# Altium integrated library TI Power Management Battery Management.IntLib: 949 symbols (part 34 of 62)
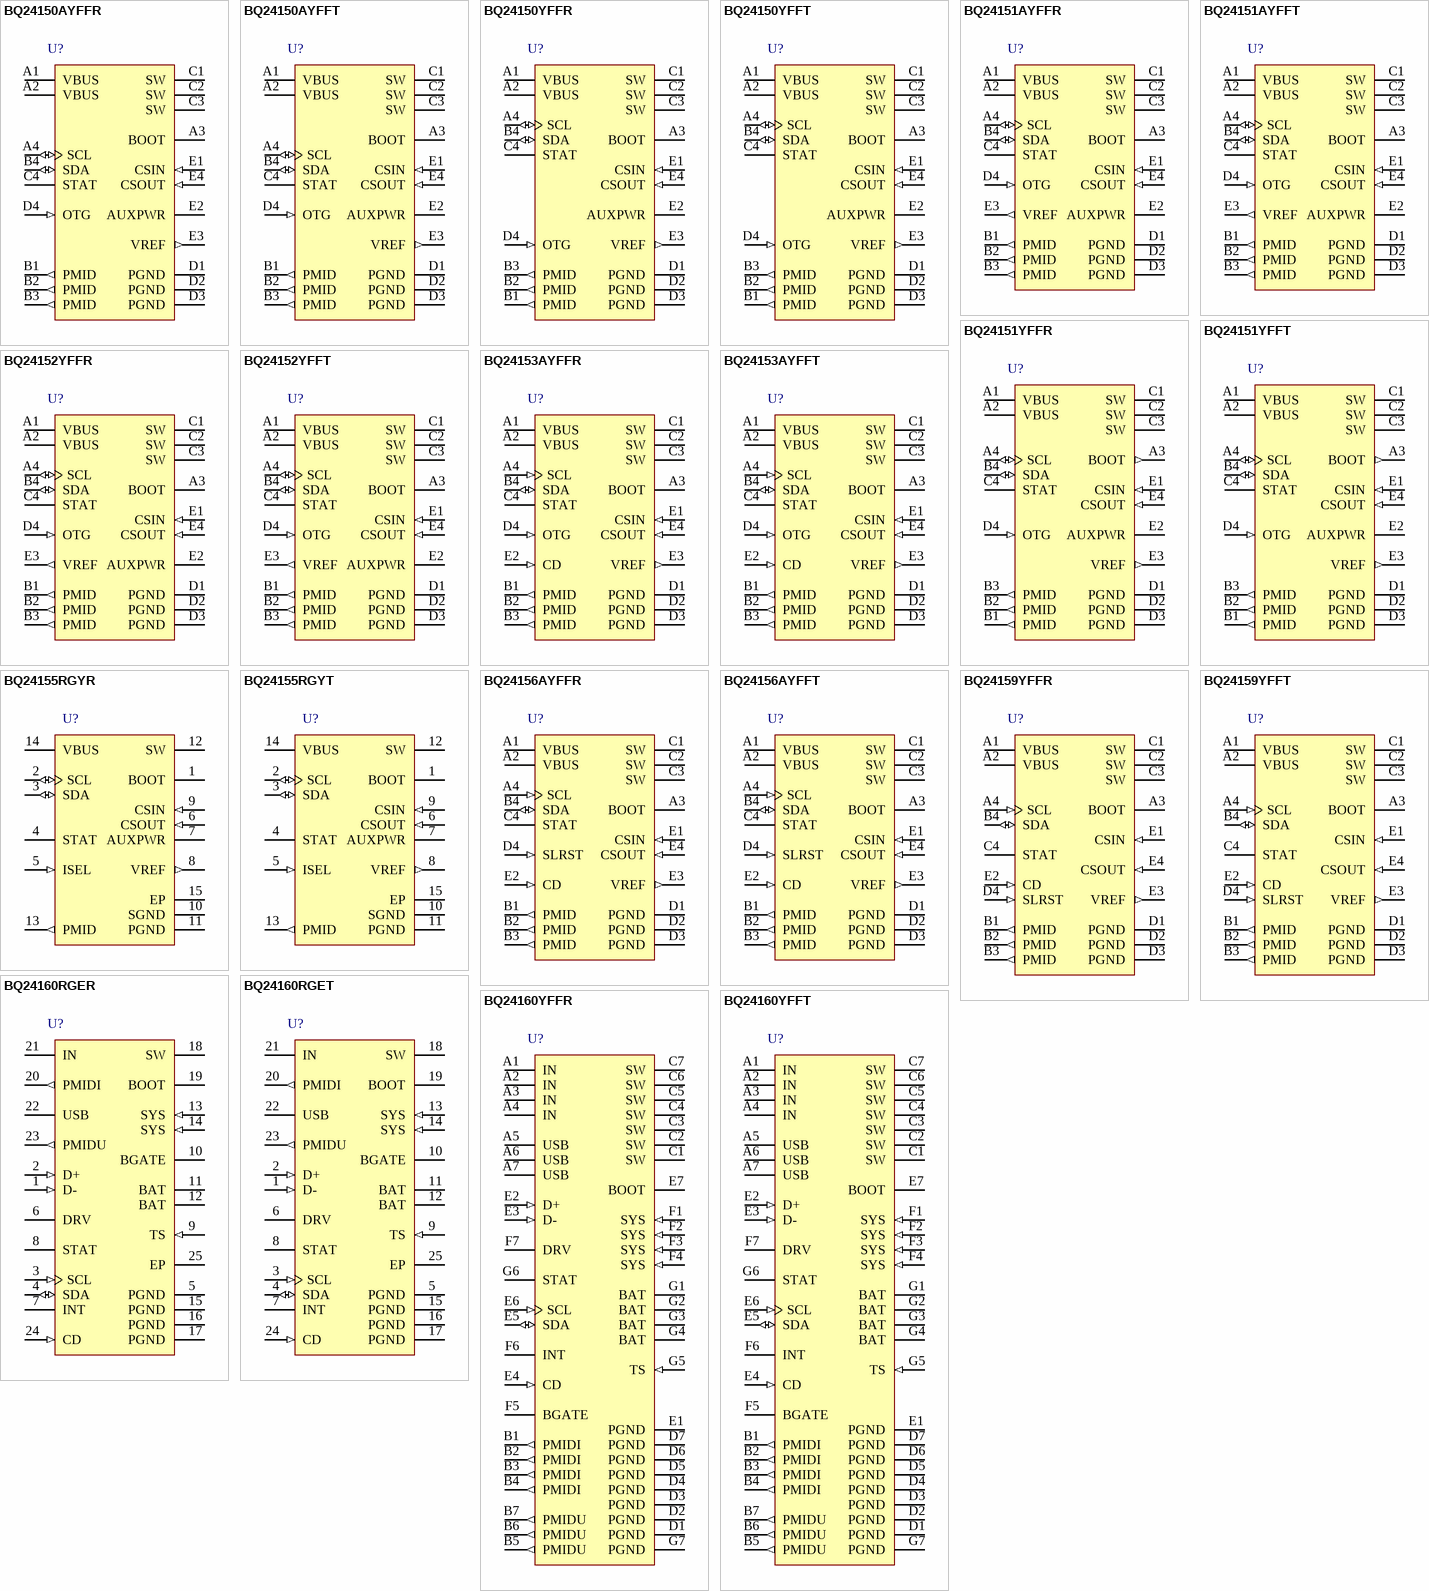
[diagram p67: symbols BQ24150AYFFR to BQ24160YFFT]

## BQ24150AYFFR
designator U?
Fully Integrated Switch-Mode One-Cell Li-Ion Charger with Full USB Compliance and USB-OTG Suppor, 4 V, -40 to 85 degC, 20-pin DSBGA (YFF), Green (RoHS & no Sb/Br); PartNumber: BQ24150AYFFR; Manufacturer: Texas Instruments; Lead Acid: N; Li-Ion: Y; SubFamily: Battery Charge Management; Vin(Min)(V): 4; DatasheetVersion: SLUS931A; PackageVersion: revAF, Mar-2012; PackageReference: YFF20-1976X1946DE; PackageDescription: 20-Ball Die-Size Ball Grid Array, 1.98 x 1.95 mm Body, 0.4 mm Pitch, Pb-Free; Supplier 1: Digi-Key; Supplier Part Number 1: 296-24527-2-ND; Supplier 2: Digi-Key; Supplier Part Number 2: 296-24527-1-ND; Supplier 3: Digi-Key; Supplier Part Number 3: 296-24527-6-ND; Supplier 4: Mouser; Supplier Part Number 4: 595-BQ24150AYFFR; Eco-Plan: Green (RoHS & no Sb/Br); Li-Polymer: Y; NiCd: N; NiMH: N; Over Voltage Protection: N; Mounting Technology: Surface Mount; ComponentLink1Description: Datasheet; ComponentLink1URL: http://www.ti.com/general/docs/lit/getliterature.tsp?genericPartNumber=BQ24150A&fileType=pdf
footprint YFF20-1976X1946DE (BGA, 20-Leads, Body 1.98x1.95mm, Pitch 0.4mm, Solder Mask Defined Pads)
pins: A1 VBUS (power) "Charger input voltage. Bypass it with a 1-uF ceramic capacitor from VBUS to PGND", A2 VBUS (power) "Charger input voltage. Bypass it with a 1-uF ceramic capacitor from VBUS to PGND", A3 BOOT (power) "Boot-strapped capacitor for the high-side MOSFET gate driver. Connect a 10-nF ceramic capacitor (voltage rating above 10 V) from BOOT pin to SW pin.", A4 SCL (io) "I2C interface clock. Open drain output, connect a 10-kohm pullup resistor to 1.8V rail", B1 PMID (out) "Connection point between reverse blocking MOSFET and high-side switching MOSFET. Bypass it with a minimum of 3.3-uF capacitor from PMID to PGND.", B2 PMID (out) "Connection point between reverse blocking MOSFET and high-side switching MOSFET. Bypass it with a minimum of 3.3-uF capacitor from PMID to PGND.", B3 PMID (out) "Connection point between reverse blocking MOSFET and high-side switching MOSFET. Bypass it with a minimum of 3.3-uF capacitor from PMID to PGND.", B4 SDA (io) "I2C interface data. Open drain output, connect a 10-kohm pullup resistor to 1.8V rail", C1 SW (power) "Internal switch to output inductor connection.", C2 SW (power) "Internal switch to output inductor connection.", C3 SW (power) "Internal switch to output inductor connection.", C4 STAT (hiz) "Charge status pin. Pull low when charge in progress. Open drain for other conditions. During faults, a 128-uS pulse is sent out. STAT pin can be disabled by the EN_STAT bit in control register. STAT can be used to drive a (See Datasheet)", D1 PGND (power) "Power ground", D2 PGND (power) "Power ground", D3 PGND (power) "Power ground", D4 OTG (in) "Boost mode enable control or input current limiting selection pin. When OTG is in active status, bq24150A/1A is forced to operate in boost mode. It has higher priority over I2C control and can be disabled through control (See Datasheet)", E1 CSIN (in) "Charge current-sense input. Battery current is sensed via the voltage drop across an external sense resistor. A 0.1-uF ceramic capacitor to PGND is required.", E2 AUXPWR (power) "Auxiliary power supply, connected to the battery pack to provide power in high-impedance mode. Bypass it with a 1-uF ceramic capacitor from this pin to PGND.", E3 VREF (out) "Internal bias regulator voltage. Connect a 1-uF ceramic capacitor from this output to PGND. External load on VREF is not allowed.", E4 CSOUT (in) "Battery voltage and current sense input. Bypass it with a ceramic capacitor (minimum 0.1 uF) to PGND if there are long inductive leads to battery."

## BQ24150AYFFT
designator U?
Fully Integrated Switch-Mode One-Cell Li-Ion Charger with Full USB Compliance and USB-OTG Suppor, 4 V, -40 to 85 degC, 20-pin DSBGA (YFF), Green (RoHS & no Sb/Br); PartNumber: BQ24150AYFFT; Manufacturer: Texas Instruments; Lead Acid: N; Li-Ion: Y; SubFamily: Battery Charge Management; Vin(Min)(V): 4; DatasheetVersion: SLUS931A; PackageVersion: revAF, Mar-2012; PackageReference: YFF20-1976X1946DE; PackageDescription: 20-Ball Die-Size Ball Grid Array, 1.98 x 1.95 mm Body, 0.4 mm Pitch, Pb-Free; Supplier 1: Digi-Key; Supplier Part Number 1: 296-24546-2-ND; Supplier 2: Digi-Key; Supplier Part Number 2: 296-24546-1-ND; Supplier 3: Digi-Key; Supplier Part Number 3: 296-24546-6-ND; Supplier 4: Newark; Supplier Part Number 4: 10R2207; Supplier 5: Mouser; Supplier Part Number 5: 595-BQ24150AYFFT; Eco-Plan: Green (RoHS & no Sb/Br); Li-Polymer: Y; NiCd: N; NiMH: N; Over Voltage Protection: N; Mounting Technology: Surface Mount; ComponentLink1Description: Datasheet; ComponentLink1URL: http://www.ti.com/general/docs/lit/getliterature.tsp?genericPartNumber=BQ24150A&fileType=pdf
footprint YFF20-1976X1946DE (BGA, 20-Leads, Body 1.98x1.95mm, Pitch 0.4mm, Solder Mask Defined Pads)
pins: A1 VBUS (power) "Charger input voltage. Bypass it with a 1-uF ceramic capacitor from VBUS to PGND", A2 VBUS (power) "Charger input voltage. Bypass it with a 1-uF ceramic capacitor from VBUS to PGND", A3 BOOT (power) "Boot-strapped capacitor for the high-side MOSFET gate driver. Connect a 10-nF ceramic capacitor (voltage rating above 10 V) from BOOT pin to SW pin.", A4 SCL (io) "I2C interface clock. Open drain output, connect a 10-kohm pullup resistor to 1.8V rail", B1 PMID (out) "Connection point between reverse blocking MOSFET and high-side switching MOSFET. Bypass it with a minimum of 3.3-uF capacitor from PMID to PGND.", B2 PMID (out) "Connection point between reverse blocking MOSFET and high-side switching MOSFET. Bypass it with a minimum of 3.3-uF capacitor from PMID to PGND.", B3 PMID (out) "Connection point between reverse blocking MOSFET and high-side switching MOSFET. Bypass it with a minimum of 3.3-uF capacitor from PMID to PGND.", B4 SDA (io) "I2C interface data. Open drain output, connect a 10-kohm pullup resistor to 1.8V rail", C1 SW (power) "Internal switch to output inductor connection.", C2 SW (power) "Internal switch to output inductor connection.", C3 SW (power) "Internal switch to output inductor connection.", C4 STAT (hiz) "Charge status pin. Pull low when charge in progress. Open drain for other conditions. During faults, a 128-uS pulse is sent out. STAT pin can be disabled by the EN_STAT bit in control register. STAT can be used to drive a (See Datasheet)", D1 PGND (power) "Power ground", D2 PGND (power) "Power ground", D3 PGND (power) "Power ground", D4 OTG (in) "Boost mode enable control or input current limiting selection pin. When OTG is in active status, bq24150A/1A is forced to operate in boost mode. It has higher priority over I2C control and can be disabled through control (See Datasheet)", E1 CSIN (in) "Charge current-sense input. Battery current is sensed via the voltage drop across an external sense resistor. A 0.1-uF ceramic capacitor to PGND is required.", E2 AUXPWR (power) "Auxiliary power supply, connected to the battery pack to provide power in high-impedance mode. Bypass it with a 1-uF ceramic capacitor from this pin to PGND.", E3 VREF (out) "Internal bias regulator voltage. Connect a 1-uF ceramic capacitor from this output to PGND. External load on VREF is not allowed.", E4 CSOUT (in) "Battery voltage and current sense input. Bypass it with a ceramic capacitor (minimum 0.1 uF) to PGND if there are long inductive leads to battery."

## BQ24150YFFR
designator U?
Fully Integrated Switch-Mode One-Cell Li-Ion Charger with Full USB Compliance and USB-OTG Suppor, 4 V, -40 to 85 degC, 20-pin DSBGA (YFF), Green (RoHS & no Sb/Br); PartNumber: BQ24150YFFR; Manufacturer: Texas Instruments; Lead Acid: N; Li-Ion: Y; SubFamily: Battery Charge Management; Vin(Min)(V): 4; DatasheetVersion: SLUS824A; PackageVersion: revAF, Mar-2012; PackageReference: YFF20-1976X1946DE; PackageDescription: 20-Ball Die-Size Ball Grid Array, 1.98 x 1.95 mm Body, 0.4 mm Pitch, Pb-Free; Supplier 1: Digi-Key; Supplier Part Number 1: 296-23460-2-ND; Supplier 2: Digi-Key; Supplier Part Number 2: 296-23460-1-ND; Supplier 3: Digi-Key; Supplier Part Number 3: 296-23460-6-ND; Supplier 4: Farnell; Supplier Part Number 4: 1625456; Supplier 5: Mouser; Supplier Part Number 5: 595-BQ24150YFFR; Eco-Plan: Green (RoHS & no Sb/Br); Li-Polymer: Y; NiCd: N; NiMH: N; Over Voltage Protection: N; Mounting Technology: Surface Mount; ComponentLink1Description: Datasheet; ComponentLink1URL: http://www.ti.com/general/docs/lit/getliterature.tsp?genericPartNumber=BQ24150&fileType=pdf
footprint YFF20-1976X1946DE (BGA, 20-Leads, Body 1.98x1.95mm, Pitch 0.4mm, Solder Mask Defined Pads)
pins: A1 VBUS (power) "Charger input voltage. Bypass it with a 1-uF ceramic capacitor from VBUS to PGND.", A2 VBUS (power) "Charger input voltage. Bypass it with a 1-uF ceramic capacitor from VBUS to PGND.", A3 BOOT "Boot-strapped capacitor for the high-side MOSFET gate driver.Connect a 10-nF ceramic capacitor (voltage rating above 10 V) from BOOT pin to SW pin", A4 SCL (io) "I2C interface clock. Open drain output, connect a 10-k ohm pullup resistor", B1 PMID (out) "Connection point between reverse blocking MOSFET gate driver.high-side switching MOSFET. Bypass it with a minimum of 3.3-uF capacitor from PMID to PGND", B2 PMID (out) "Connection point between reverse blocking MOSFET gate driver.high-side switching MOSFET. Bypass it with a minimum of 3.3-uF capacitor from PMID to PGND", B3 PMID (out) "Connection point between reverse blocking MOSFET gate driver.high-side switching MOSFET. Bypass it with a minimum of 3.3-uF capacitor from PMID to PGND", B4 SDA (io) "I2C interface data. Open drain output, connect a 10-k ohm  pullup resistor", C1 SW (power) "Internal switch to output inductor connection.", C2 SW (power) "Internal switch to output inductor connection.", C3 SW (power) "Internal switch to output inductor connection.", C4 STAT (hiz) "Charge status pin. Pull low when charge in progress. Open drain for other conditions. During faults, a 128-uS pulse is sent out. STAT pin can be disabled by the EN_STAT bit in control register. STAT can be used to drive a (See Datasheet)", D1 PGND (power) "Power ground", D2 PGND (power) "Power ground", D3 PGND (power) "Power ground", D4 OTG (in) "Boost mode enable control or input current limiting selection pin. When OTG is in active status,bq24150 is forced to operate in boost mode. It has higher priority over I2C control and can be disabled through control register.(See Datasheet)", E1 CSIN (in) "Charge current-sense input. Battery current is sensed via the voltage drop across an external sense resistor. A 0.1-uF ceramic capacitor to PGND is required", E2 AUXPWR (power) "Auxiliary power supply,connected to the battery pack to provide power in high-impedance mode.Bypass it with a 1-uF ceramic capacitor from this pin to PGND", E3 VREF (out) "Internal bias regulator voltage.Connect a 1-uF ceramic capacitor from this output to PGND. External load on VREF is not allowed.", E4 CSOUT (in) "Battery voltage and current sense input. Bypass it with a ceramic capacitor (minimum 0.1 uF) to PGND if there are long inductive leads to battery"

## BQ24150YFFT
designator U?
Fully Integrated Switch-Mode One-Cell Li-Ion Charger with Full USB Compliance and USB-OTG Suppor, 4 V, -40 to 85 degC, 20-pin DSBGA (YFF), Green (RoHS & no Sb/Br); PartNumber: BQ24150YFFT; Manufacturer: Texas Instruments; Lead Acid: N; Li-Ion: Y; SubFamily: Battery Charge Management; Vin(Min)(V): 4; DatasheetVersion: SLUS824A; PackageVersion: revAF, Mar-2012; PackageReference: YFF20-1976X1946DE; PackageDescription: 20-Ball Die-Size Ball Grid Array, 1.98 x 1.95 mm Body, 0.4 mm Pitch, Pb-Free; Supplier 1: Digi-Key; Supplier Part Number 1: 296-23601-2-ND; Supplier 2: Digi-Key; Supplier Part Number 2: 296-23601-1-ND; Supplier 3: Digi-Key; Supplier Part Number 3: 296-23601-6-ND; Supplier 4: Farnell; Supplier Part Number 4: 1647896; Supplier 5: Mouser; Supplier Part Number 5: 595-BQ24150YFFT; Eco-Plan: Green (RoHS & no Sb/Br); Li-Polymer: Y; NiCd: N; NiMH: N; Over Voltage Protection: N; Mounting Technology: Surface Mount; ComponentLink1Description: Datasheet; ComponentLink1URL: http://www.ti.com/general/docs/lit/getliterature.tsp?genericPartNumber=BQ24150&fileType=pdf
footprint YFF20-1976X1946DE (BGA, 20-Leads, Body 1.98x1.95mm, Pitch 0.4mm, Solder Mask Defined Pads)
pins: A1 VBUS (power) "Charger input voltage. Bypass it with a 1-uF ceramic capacitor from VBUS to PGND.", A2 VBUS (power) "Charger input voltage. Bypass it with a 1-uF ceramic capacitor from VBUS to PGND.", A3 BOOT "Boot-strapped capacitor for the high-side MOSFET gate driver.Connect a 10-nF ceramic capacitor (voltage rating above 10 V) from BOOT pin to SW pin", A4 SCL (io) "I2C interface clock. Open drain output, connect a 10-k ohm pullup resistor", B1 PMID (out) "Connection point between reverse blocking MOSFET gate driver.high-side switching MOSFET. Bypass it with a minimum of 3.3-uF capacitor from PMID to PGND", B2 PMID (out) "Connection point between reverse blocking MOSFET gate driver.high-side switching MOSFET. Bypass it with a minimum of 3.3-uF capacitor from PMID to PGND", B3 PMID (out) "Connection point between reverse blocking MOSFET gate driver.high-side switching MOSFET. Bypass it with a minimum of 3.3-uF capacitor from PMID to PGND", B4 SDA (io) "I2C interface data. Open drain output, connect a 10-k ohm  pullup resistor", C1 SW (power) "Internal switch to output inductor connection.", C2 SW (power) "Internal switch to output inductor connection.", C3 SW (power) "Internal switch to output inductor connection.", C4 STAT (hiz) "Charge status pin. Pull low when charge in progress. Open drain for other conditions. During faults, a 128-uS pulse is sent out. STAT pin can be disabled by the EN_STAT bit in control register. STAT can be used to drive a (See Datasheet)", D1 PGND (power) "Power ground", D2 PGND (power) "Power ground", D3 PGND (power) "Power ground", D4 OTG (in) "Boost mode enable control or input current limiting selection pin. When OTG is in active status,bq24150 is forced to operate in boost mode. It has higher priority over I2C control and can be disabled through control register.(See Datasheet)", E1 CSIN (in) "Charge current-sense input. Battery current is sensed via the voltage drop across an external sense resistor. A 0.1-uF ceramic capacitor to PGND is required", E2 AUXPWR (power) "Auxiliary power supply,connected to the battery pack to provide power in high-impedance mode.Bypass it with a 1-uF ceramic capacitor from this pin to PGND", E3 VREF (out) "Internal bias regulator voltage.Connect a 1-uF ceramic capacitor from this output to PGND. External load on VREF is not allowed.", E4 CSOUT (in) "Battery voltage and current sense input. Bypass it with a ceramic capacitor (minimum 0.1 uF) to PGND if there are long inductive leads to battery"

## BQ24151AYFFR
designator U?
Fully Integrated Switch-Mode One-Cell Li-Ion Charger with Full USB Compliance and USB-OTG Suppor, 4 V, -40 to 85 degC, 20-pin DSBGA (YFF), Green (RoHS & no Sb/Br); PartNumber: BQ24151AYFFR; Manufacturer: Texas Instruments; Lead Acid: N; Li-Ion: Y; SubFamily: Battery Charge Management; Vin(Min)(V): 4; DatasheetVersion: SLUS931A; PackageVersion: revAF, Mar-2012; PackageReference: YFF20-1976X1946DE; PackageDescription: 20-Ball Die-Size Ball Grid Array, 1.98 x 1.95 mm Body, 0.4 mm Pitch, Pb-Free; Supplier 1: Digi-Key; Supplier Part Number 1: 296-24521-2-ND; Supplier 2: Digi-Key; Supplier Part Number 2: 296-24521-1-ND; Supplier 3: Digi-Key; Supplier Part Number 3: 296-24521-6-ND; Supplier 4: Newark; Supplier Part Number 4: 10R1438; Supplier 5: Mouser; Supplier Part Number 5: 595-BQ24151AYFFR; Eco-Plan: Green (RoHS & no Sb/Br); Li-Polymer: Y; NiCd: N; NiMH: N; Over Voltage Protection: N; Mounting Technology: Surface Mount; ComponentLink1Description: Datasheet; ComponentLink1URL: http://www.ti.com/general/docs/lit/getliterature.tsp?genericPartNumber=BQ24151A&fileType=pdf
footprint YFF20-1976X1946DE (BGA, 20-Leads, Body 1.98x1.95mm, Pitch 0.4mm, Solder Mask Defined Pads)
pins: A1 VBUS (power) "Charger input voltage. Bypass it with a 1-uF ceramic capacitor from VBUS to PGND", A2 VBUS (power) "Charger input voltage. Bypass it with a 1-uF ceramic capacitor from VBUS to PGND", A3 BOOT (power) "Boot-strapped capacitor for the high-side MOSFET gate driver. Connect a 10-nF ceramic capacitor (voltage rating above 10 V) from BOOT pin to SW pin.", A4 SCL (io) "I2C interface clock. Open drain output, connect a 10-k ohm pullup resistor to 1.8V rail", B1 PMID (out) "Connection point between reverse blocking MOSFET and high-side switching MOSFET. Bypass it with a minimum of 3.3-uF capacitor from PMID to PGND", B2 PMID (out) "Connection point between reverse blocking MOSFET and high-side switching MOSFET. Bypass it with a minimum of 3.3-uF capacitor from PMID to PGND", B3 PMID (out) "Connection point between reverse blocking MOSFET and high-side switching MOSFET. Bypass it with a minimum of 3.3-uF capacitor from PMID to PGND", B4 SDA (io) "I2C interface data. Open drain output, connect a 10-k ohm pullup resistor to 1.8V rail", C1 SW (power) "Internal switch to output inductor connection.", C2 SW (power) "Internal switch to output inductor connection.", C3 SW (power) "Internal switch to output inductor connection.", C4 STAT (hiz) "Charge status pin. Pull low when charge in progress. Open drain for other conditions. During faults, a 128-uS pulse is sent out. STAT pin can be disabled by the EN_STAT bit in control register. STAT can be used to drive a (See Datasheet)", D1 PGND (power) "Power ground", D2 PGND (power) "Power ground", D3 PGND (power) "Power ground", D4 OTG (in) "Boost mode enable control or input current limiting selection pin. When OTG is in active status, bq24150A/1A is forced to operate in boost mode. It has higher priority over I2C control and can be disabled through control (See Datasheet)", E1 CSIN (in) "Charge current-sense input. Battery current is sensed via the voltage drop across an external sense resistor. A 0.1-uF ceramic capacitor to PGND is required", E2 AUXPWR (power) "Auxiliary power supply, connected to the battery pack to provide power in high-impedance mode.Bypass it with a 1-uF ceramic capacitor from this pin to PGND", E3 VREF (out) "Internal bias regulator voltage. Connect a 1-uF ceramic capacitor from this output to PGND. External load on VREF is not allowed", E4 CSOUT (in) "Battery voltage and current sense input. Bypass it with a ceramic capacitor (minimum 0.1 uF) to PGND if there are long inductive leads to battery"

## BQ24151AYFFT
designator U?
Fully Integrated Switch-Mode One-Cell Li-Ion Charger with Full USB Compliance and USB-OTG Suppor, 4 V, -40 to 85 degC, 20-pin DSBGA (YFF), Green (RoHS & no Sb/Br); PartNumber: BQ24151AYFFT; Manufacturer: Texas Instruments; Lead Acid: N; Li-Ion: Y; SubFamily: Battery Charge Management; Vin(Min)(V): 4; DatasheetVersion: SLUS931A; PackageVersion: revAF, Mar-2012; PackageReference: YFF20-1976X1946DE; PackageDescription: 20-Ball Die-Size Ball Grid Array, 1.98 x 1.95 mm Body, 0.4 mm Pitch, Pb-Free; Supplier 1: Digi-Key; Supplier Part Number 1: 296-24541-2-ND; Supplier 2: Digi-Key; Supplier Part Number 2: 296-24541-1-ND; Supplier 3: Digi-Key; Supplier Part Number 3: 296-24541-6-ND; Supplier 4: Newark; Supplier Part Number 4: 10R6870; Supplier 5: Mouser; Supplier Part Number 5: 595-BQ24151AYFFT; Eco-Plan: Green (RoHS & no Sb/Br); Li-Polymer: Y; NiCd: N; NiMH: N; Over Voltage Protection: N; Mounting Technology: Surface Mount; ComponentLink1Description: Datasheet; ComponentLink1URL: http://www.ti.com/general/docs/lit/getliterature.tsp?genericPartNumber=BQ24151A&fileType=pdf
footprint YFF20-1976X1946DE (BGA, 20-Leads, Body 1.98x1.95mm, Pitch 0.4mm, Solder Mask Defined Pads)
pins: A1 VBUS (power) "Charger input voltage. Bypass it with a 1-uF ceramic capacitor from VBUS to PGND", A2 VBUS (power) "Charger input voltage. Bypass it with a 1-uF ceramic capacitor from VBUS to PGND", A3 BOOT (power) "Boot-strapped capacitor for the high-side MOSFET gate driver. Connect a 10-nF ceramic capacitor (voltage rating above 10 V) from BOOT pin to SW pin.", A4 SCL (io) "I2C interface clock. Open drain output, connect a 10-k ohm pullup resistor to 1.8V rail", B1 PMID (out) "Connection point between reverse blocking MOSFET and high-side switching MOSFET. Bypass it with a minimum of 3.3-uF capacitor from PMID to PGND", B2 PMID (out) "Connection point between reverse blocking MOSFET and high-side switching MOSFET. Bypass it with a minimum of 3.3-uF capacitor from PMID to PGND", B3 PMID (out) "Connection point between reverse blocking MOSFET and high-side switching MOSFET. Bypass it with a minimum of 3.3-uF capacitor from PMID to PGND", B4 SDA (io) "I2C interface data. Open drain output, connect a 10-k ohm pullup resistor to 1.8V rail", C1 SW (power) "Internal switch to output inductor connection.", C2 SW (power) "Internal switch to output inductor connection.", C3 SW (power) "Internal switch to output inductor connection.", C4 STAT (hiz) "Charge status pin. Pull low when charge in progress. Open drain for other conditions. During faults, a 128-uS pulse is sent out. STAT pin can be disabled by the EN_STAT bit in control register. STAT can be used to drive a (See Datasheet)", D1 PGND (power) "Power ground", D2 PGND (power) "Power ground", D3 PGND (power) "Power ground", D4 OTG (in) "Boost mode enable control or input current limiting selection pin. When OTG is in active status, bq24150A/1A is forced to operate in boost mode. It has higher priority over I2C control and can be disabled through control (See Datasheet)", E1 CSIN (in) "Charge current-sense input. Battery current is sensed via the voltage drop across an external sense resistor. A 0.1-uF ceramic capacitor to PGND is required", E2 AUXPWR (power) "Auxiliary power supply, connected to the battery pack to provide power in high-impedance mode.Bypass it with a 1-uF ceramic capacitor from this pin to PGND", E3 VREF (out) "Internal bias regulator voltage. Connect a 1-uF ceramic capacitor from this output to PGND. External load on VREF is not allowed", E4 CSOUT (in) "Battery voltage and current sense input. Bypass it with a ceramic capacitor (minimum 0.1 uF) to PGND if there are long inductive leads to battery"

## BQ24151YFFR
designator U?
Fully Integrated Switch-Mode One-Cell Li-Ion Charger with Full USB Compliance and USB-OTG Suppor, 4 V, -40 to 85 degC, 20-pin DSBGA (YFF), Green (RoHS & no Sb/Br); PartNumber: BQ24151YFFR; Manufacturer: Texas Instruments; Lead Acid: N; Li-Ion: Y; SubFamily: Battery Charge Management; Vin(Min)(V): 4; DatasheetVersion: SLUS824A; PackageVersion: revAF, Mar-2012; PackageReference: YFF20-1976X1946DE; PackageDescription: 20-Ball Die-Size Ball Grid Array, 1.98 x 1.95 mm Body, 0.4 mm Pitch, Pb-Free; Supplier 1: Digi-Key; Supplier Part Number 1: 296-23461-2-ND; Supplier 2: Digi-Key; Supplier Part Number 2: 296-23461-1-ND; Supplier 3: Digi-Key; Supplier Part Number 3: 296-23461-6-ND; Supplier 4: Mouser; Supplier Part Number 4: 595-BQ24151YFFR; Eco-Plan: Green (RoHS & no Sb/Br); Li-Polymer: Y; NiCd: N; NiMH: N; Over Voltage Protection: N; Mounting Technology: Surface Mount; ComponentLink1Description: Datasheet; ComponentLink1URL: http://www.ti.com/general/docs/lit/getliterature.tsp?genericPartNumber=BQ24151&fileType=pdf
footprint YFF20-1976X1946DE (BGA, 20-Leads, Body 1.98x1.95mm, Pitch 0.4mm, Solder Mask Defined Pads)
pins: A1 VBUS (power) "Charger input voltage. Bypass it with a 1-uF ceramic capacitor from VBUS to PGND", A2 VBUS (power) "Charger input voltage. Bypass it with a 1-uF ceramic capacitor from VBUS to PGND", A3 BOOT (out) "Boot-strapped capacitor for the high-side MOSFET gate driver. Connect a 10-nF ceramic capacitor (voltage rating above 10 V) from BOOT pin to SW pin", A4 SCL (io) "I2C interface clock. Open drain output, connect a 10-kohm pullup resistor", B1 PMID (out) "Connection point between reverse blocking MOSFET and high-side switching MOSFET. Bypass it with a minimum of 3.3-uF capacitor from PMID to PGND.", B2 PMID (out) "Connection point between reverse blocking MOSFET and high-side switching MOSFET. Bypass it with a minimum of 3.3-uF capacitor from PMID to PGND.", B3 PMID (out) "Connection point between reverse blocking MOSFET and high-side switching MOSFET. Bypass it with a minimum of 3.3-uF capacitor from PMID to PGND.", B4 SDA (io) "I2C interface data. Open drain output, connect a 10-kohm pullup resistor", C1 SW (power) "Internal switch to output inductor connection.", C2 SW (power) "Internal switch to output inductor connection.", C3 SW (power) "Internal switch to output inductor connection.", C4 STAT (hiz) "Charge status pin. Pull low when charge in progress. Open drain for other conditions. During faults, a 128-uS pulse is sent out. STAT pin can be disabled by the EN_STAT bit in control register. STAT can be used to drive a (See Datasheet)", D1 PGND (power) "Power ground", D2 PGND (power) "Power ground", D3 PGND (power) "Power ground", D4 OTG (in) "Boost mode enable control or input current limiting selection pin. When OTG is in active status, bq24150/1 is forced to operate in boost mode. It has higher priority over I2C control and can be disabled through control (See Datasheet)", E1 CSIN (in) "Charge current-sense input. Battery current is sensed via the voltage drop across an external sense resistor. A 0.1-uF ceramic capacitor to PGND is required.", E2 AUXPWR (power) "Auxiliary power supply, connected to the battery pack to provide power in high-impedance mode. Bypass it with a 1-uF ceramic capacitor from this pin to PGND.", E3 VREF (out) "Internal bias regulator voltage. Connect a 1-mF ceramic capacitor from this output to PGND. External load on VREF is not allowed.", E4 CSOUT (in) "Battery voltage and current sense input. Bypass it with a ceramic capacitor (minimum 0.1 uF) to PGND if there are long inductive leads to battery."

## BQ24151YFFT
designator U?
Fully Integrated Switch-Mode One-Cell Li-Ion Charger with Full USB Compliance and USB-OTG Suppor, 4 V, -40 to 85 degC, 20-pin DSBGA (YFF), Green (RoHS & no Sb/Br); PartNumber: BQ24151YFFT; Manufacturer: Texas Instruments; Lead Acid: N; Li-Ion: Y; SubFamily: Battery Charge Management; Vin(Min)(V): 4; DatasheetVersion: SLUS824A; PackageVersion: revAF, Mar-2012; PackageReference: YFF20-1976X1946DE; PackageDescription: 20-Ball Die-Size Ball Grid Array, 1.98 x 1.95 mm Body, 0.4 mm Pitch, Pb-Free; Supplier 1: Digi-Key; Supplier Part Number 1: 296-23602-2-ND; Supplier 2: Digi-Key; Supplier Part Number 2: 296-23602-1-ND; Supplier 3: Digi-Key; Supplier Part Number 3: 296-23602-6-ND; Supplier 4: Farnell; Supplier Part Number 4: 1647897; Supplier 5: Farnell; Supplier Part Number 5: 1647897RL; Supplier 6: Mouser; Supplier Part Number 6: 595-BQ24151YFFT; Eco-Plan: Green (RoHS & no Sb/Br); Li-Polymer: Y; NiCd: N; NiMH: N; Over Voltage Protection: N; Mounting Technology: Surface Mount; ComponentLink1Description: Datasheet; ComponentLink1URL: http://www.ti.com/general/docs/lit/getliterature.tsp?genericPartNumber=BQ24151&fileType=pdf
footprint YFF20-1976X1946DE (BGA, 20-Leads, Body 1.98x1.95mm, Pitch 0.4mm, Solder Mask Defined Pads)
pins: A1 VBUS (power) "Charger input voltage. Bypass it with a 1-uF ceramic capacitor from VBUS to PGND", A2 VBUS (power) "Charger input voltage. Bypass it with a 1-uF ceramic capacitor from VBUS to PGND", A3 BOOT (out) "Boot-strapped capacitor for the high-side MOSFET gate driver. Connect a 10-nF ceramic capacitor (voltage rating above 10 V) from BOOT pin to SW pin", A4 SCL (io) "I2C interface clock. Open drain output, connect a 10-kohm pullup resistor", B1 PMID (out) "Connection point between reverse blocking MOSFET and high-side switching MOSFET. Bypass it with a minimum of 3.3-uF capacitor from PMID to PGND.", B2 PMID (out) "Connection point between reverse blocking MOSFET and high-side switching MOSFET. Bypass it with a minimum of 3.3-uF capacitor from PMID to PGND.", B3 PMID (out) "Connection point between reverse blocking MOSFET and high-side switching MOSFET. Bypass it with a minimum of 3.3-uF capacitor from PMID to PGND.", B4 SDA (io) "I2C interface data. Open drain output, connect a 10-kohm pullup resistor", C1 SW (power) "Internal switch to output inductor connection.", C2 SW (power) "Internal switch to output inductor connection.", C3 SW (power) "Internal switch to output inductor connection.", C4 STAT (hiz) "Charge status pin. Pull low when charge in progress. Open drain for other conditions. During faults, a 128-uS pulse is sent out. STAT pin can be disabled by the EN_STAT bit in control register. STAT can be used to drive a (See Datasheet)", D1 PGND (power) "Power ground", D2 PGND (power) "Power ground", D3 PGND (power) "Power ground", D4 OTG (in) "Boost mode enable control or input current limiting selection pin. When OTG is in active status, bq24150/1 is forced to operate in boost mode. It has higher priority over I2C control and can be disabled through control (See Datasheet)", E1 CSIN (in) "Charge current-sense input. Battery current is sensed via the voltage drop across an external sense resistor. A 0.1-uF ceramic capacitor to PGND is required.", E2 AUXPWR (power) "Auxiliary power supply, connected to the battery pack to provide power in high-impedance mode. Bypass it with a 1-uF ceramic capacitor from this pin to PGND.", E3 VREF (out) "Internal bias regulator voltage. Connect a 1-mF ceramic capacitor from this output to PGND. External load on VREF is not allowed.", E4 CSOUT (in) "Battery voltage and current sense input. Bypass it with a ceramic capacitor (minimum 0.1 uF) to PGND if there are long inductive leads to battery."

## BQ24152YFFR
designator U?
Fully Integrated Switch-Mode One-Cell Li-Ion Charger with Full USB Compliance and USB-OTG Suppor, 4 V, -40 to 85 degC, 20-pin DSBGA (YFF), Green (RoHS & no Sb/Br); PartNumber: BQ24152YFFR; Manufacturer: Texas Instruments; Lead Acid: N; Li-Ion: Y; SubFamily: Battery Charge Management; Vin(Min)(V): 4; DatasheetVersion: SLUS847A; PackageVersion: revAF, Mar-2012; PackageReference: YFF20-1976X1946DE; PackageDescription: 20-Ball Die-Size Ball Grid Array, 1.98 x 1.95 mm Body, 0.4 mm Pitch, Pb-Free; Supplier 1: Digi-Key; Supplier Part Number 1: 296-23517-2-ND; Supplier 2: Digi-Key; Supplier Part Number 2: 296-23517-1-ND; Supplier 3: Digi-Key; Supplier Part Number 3: 296-23517-6-ND; Supplier 4: Newark; Supplier Part Number 4: 14N4059; Supplier 5: Mouser; Supplier Part Number 5: 595-BQ24152YFFR; Eco-Plan: Green (RoHS & no Sb/Br); Li-Polymer: Y; NiCd: N; NiMH: N; Over Voltage Protection: N; Mounting Technology: Surface Mount; ComponentLink1Description: Datasheet; ComponentLink1URL: http://www.ti.com/general/docs/lit/getliterature.tsp?genericPartNumber=BQ24152&fileType=pdf
footprint YFF20-1976X1946DE (BGA, 20-Leads, Body 1.98x1.95mm, Pitch 0.4mm, Solder Mask Defined Pads)
pins: A1 VBUS (power) "Charger input voltage. Bypass it with a 1-uF ceramic capacitor from VBUS to PGND", A2 VBUS (power) "Charger input voltage. Bypass it with a 1-uF ceramic capacitor from VBUS to PGND", A3 BOOT (power) "Boot-strapped capacitor for the high-side MOSFET gate driver. Connect a 10-nF ceramic capacitor (voltage rating above 10 V) from BOOT pin to SW pin.", A4 SCL (io) "I2C interface clock. Open drain output, connect a 10-kohm pullup resistor to 1.8V rail", B1 PMID (out) "Connection point between reverse blocking MOSFET and high-side switching MOSFET. Bypass it with a minimum of 3.3-uF capacitor from PMID to PGND.", B2 PMID (out) "Connection point between reverse blocking MOSFET and high-side switching MOSFET. Bypass it with a minimum of 3.3-uF capacitor from PMID to PGND.", B3 PMID (out) "Connection point between reverse blocking MOSFET and high-side switching MOSFET. Bypass it with a minimum of 3.3-uF capacitor from PMID to PGND.", B4 SDA (io) "I2C interface data. Open drain output, connect a 10-kohm pullup resistor to 1.8V rail", C1 SW (power) "Internal switch to output inductor connection.", C2 SW (power) "Internal switch to output inductor connection.", C3 SW (power) "Internal switch to output inductor connection.", C4 STAT (hiz) "Charge status pin. Pull low when charge in progress. Open drain for other conditions. During faults, a 128uS pulse is sent out. STAT pin can be disabled by the EN_STAT bit in control register. STAT can  be used to drive a (See Datasheet)", D1 PGND (power) "Power ground", D2 PGND (power) "Power ground", D3 PGND (power) "Power ground", D4 OTG (in) "Boost mode enable control or input current limiting selection pin. When OTG is in active status, bq24152 is forced to operate in boost mode. It has higher priority over I2C control and can be disabled through control (See Datasheet)", E1 CSIN (in) "Charge current-sense input. Battery current is sensed via the voltage drop across an external sense resistor. A 0.1-uF ceramic capacitor to PGND is required.", E2 AUXPWR (power) "Auxiliary power supply, connected to the battery pack to provide power in high-impedance mode. Bypass it with a 1-uF ceramic capacitor from this pin to PGND.", E3 VREF (out) "Internal bias regulator voltage. Connect a 1-uF ceramic capacitor from this output to PGND. External load on VREF is not allowed.", E4 CSOUT (in) "Battery voltage and current sense input. Bypass it with a ceramic capacitor (minimum 0.1 uF) to PGND if there are long inductive leads to battery."

## BQ24152YFFT
designator U?
Fully Integrated Switch-Mode One-Cell Li-Ion Charger with Full USB Compliance and USB-OTG Suppor, 4 V, -40 to 85 degC, 20-pin DSBGA (YFF), Green (RoHS & no Sb/Br); PartNumber: BQ24152YFFT; Manufacturer: Texas Instruments; Lead Acid: N; Li-Ion: Y; SubFamily: Battery Charge Management; Vin(Min)(V): 4; DatasheetVersion: SLUS847A; PackageVersion: revAF, Mar-2012; PackageReference: YFF20-1976X1946DE; PackageDescription: 20-Ball Die-Size Ball Grid Array, 1.98 x 1.95 mm Body, 0.4 mm Pitch, Pb-Free; Supplier 1: Digi-Key; Supplier Part Number 1: BQ24152YFFT-ND; Supplier 2: Newark; Supplier Part Number 2: 02P9900; Supplier 3: Mouser; Supplier Part Number 3: 595-BQ24152YFFT; Eco-Plan: Green (RoHS & no Sb/Br); Li-Polymer: Y; NiCd: N; NiMH: N; Over Voltage Protection: N; Mounting Technology: Surface Mount; ComponentLink1Description: Datasheet; ComponentLink1URL: http://www.ti.com/general/docs/lit/getliterature.tsp?genericPartNumber=BQ24152&fileType=pdf
footprint YFF20-1976X1946DE (BGA, 20-Leads, Body 1.98x1.95mm, Pitch 0.4mm, Solder Mask Defined Pads)
pins: A1 VBUS (power) "Charger input voltage. Bypass it with a 1-uF ceramic capacitor from VBUS to PGND", A2 VBUS (power) "Charger input voltage. Bypass it with a 1-uF ceramic capacitor from VBUS to PGND", A3 BOOT (power) "Boot-strapped capacitor for the high-side MOSFET gate driver. Connect a 10-nF ceramic capacitor (voltage rating above 10 V) from BOOT pin to SW pin.", A4 SCL (io) "I2C interface clock. Open drain output, connect a 10-kohm pullup resistor to 1.8V rail", B1 PMID (out) "Connection point between reverse blocking MOSFET and high-side switching MOSFET. Bypass it with a minimum of 3.3-uF capacitor from PMID to PGND.", B2 PMID (out) "Connection point between reverse blocking MOSFET and high-side switching MOSFET. Bypass it with a minimum of 3.3-uF capacitor from PMID to PGND.", B3 PMID (out) "Connection point between reverse blocking MOSFET and high-side switching MOSFET. Bypass it with a minimum of 3.3-uF capacitor from PMID to PGND.", B4 SDA (io) "I2C interface data. Open drain output, connect a 10-kohm pullup resistor to 1.8V rail", C1 SW (power) "Internal switch to output inductor connection.", C2 SW (power) "Internal switch to output inductor connection.", C3 SW (power) "Internal switch to output inductor connection.", C4 STAT (hiz) "Charge status pin. Pull low when charge in progress. Open drain for other conditions. During faults, a 128uS pulse is sent out. STAT pin can be disabled by the EN_STAT bit in control register. STAT can  be used to drive a (See Datasheet)", D1 PGND (power) "Power ground", D2 PGND (power) "Power ground", D3 PGND (power) "Power ground", D4 OTG (in) "Boost mode enable control or input current limiting selection pin. When OTG is in active status, bq24152 is forced to operate in boost mode. It has higher priority over I2C control and can be disabled through control (See Datasheet)", E1 CSIN (in) "Charge current-sense input. Battery current is sensed via the voltage drop across an external sense resistor. A 0.1-uF ceramic capacitor to PGND is required.", E2 AUXPWR (power) "Auxiliary power supply, connected to the battery pack to provide power in high-impedance mode. Bypass it with a 1-uF ceramic capacitor from this pin to PGND.", E3 VREF (out) "Internal bias regulator voltage. Connect a 1-uF ceramic capacitor from this output to PGND. External load on VREF is not allowed.", E4 CSOUT (in) "Battery voltage and current sense input. Bypass it with a ceramic capacitor (minimum 0.1 uF) to PGND if there are long inductive leads to battery."

## BQ24153AYFFR
designator U?
Fully Integrated Switch Mode One-Cell Li-Ion Charger with Full USB Compliance, 4 V, -40 to 85 degC, 20-pin DSBGA (YFF), Green (RoHS & no Sb/Br); PartNumber: BQ24153AYFFR; Manufacturer: Texas Instruments; Lead Acid: N; SubFamily: Battery Charge Management; Vin(Min)(V): 4; DatasheetVersion: SLUSAB0A; PackageVersion: revAF, Mar-2012; PackageReference: YFF20-2140X2000DE; PackageDescription: 20-Ball Die-Size Ball Grid Array, 2.14 x 2 mm Body, 0.4 mm Pitch, Pb-Free; Supplier 1: Digi-Key; Supplier Part Number 1: 296-28034-2-ND; Supplier 2: Digi-Key; Supplier Part Number 2: 296-28034-1-ND; Supplier 3: Digi-Key; Supplier Part Number 3: 296-28034-6-ND; Supplier 4: Mouser; Supplier Part Number 4: 595-BQ24153AYFFR; Eco-Plan: Green (RoHS & no Sb/Br); Li-Ion: N; Li-Polymer: N; NiCd: N; NiMH: N; Over Voltage Protection: N; Mounting Technology: Surface Mount; ComponentLink1Description: Datasheet; ComponentLink1URL: http://www.ti.com/general/docs/lit/getliterature.tsp?genericPartNumber=BQ24153A&fileType=pdf
footprint YFF20-2140X2000DE (BGA, 20-Leads, Body 2.14x2mm, Pitch 0.4mm, Solder Mask Defined Pads)
pins: A1 VBUS (power) "Charger input voltage. Bypass it with a 1-uF ceramic capacitor from VBUS to PGND. It also provides power to the load during boost mode 1", A2 VBUS (power) "Charger input voltage. Bypass it with a 1-uF ceramic capacitor from VBUS to PGND. It also provides power to the load during boost mode 1", A3 BOOT (power) "Bootstrap capacitor connection for the high-side FET gate driver. Connect a 10-nF ceramic capacitor (voltage rating >= 10 V) from BOOT pin to SW pin", A4 SCL (in) "I2C interface clock. Connect a 10-k ohm pullup resistor to 1.8V rail (VAUX= VCC_HOST)", B1 PMID (out) "Connection point between reverse blocking FET and high-side switching FET. Bypass it with a minimum of 3.3 uF capacitor from PMID to PGND", B2 PMID (out) "Connection point between reverse blocking FET and high-side switching FET. Bypass it with a minimum of 3.3 uF capacitor from PMID to PGND", B3 PMID (out) "Connection point between reverse blocking FET and high-side switching FET. Bypass it with a minimum of 3.3 uF capacitor from PMID to PGND", B4 SDA (io) "I2C interface data. Connect a 10-k ohm  pullup resistor to 1.8V rail (VAUX= VCC_HOST)", C1 SW (power) "Internal switch to output inductor connection.", C2 SW (power) "Internal switch to output inductor connection.", C3 SW (power) "Internal switch to output inductor connection.", C4 STAT (hiz) "Charge status pin. Pull low when charge in progress. Open drain for other conditions. During faults, a 128-us pulse is sent out. STAT pin can be disabled by the EN_STAT bit in control register. STAT can be used to drive a (See Datasheet)", D1 PGND (power) "Power ground", D2 PGND (power) "Power ground", D3 PGND (power) "Power ground", D4 OTG (in) "Boost mode enable control or input current limiting selection pin. When OTG is in active status, bq24153A/8 is forced to operate in boost mode. It has higher priority over I2C control and can be disabled using the control (See Datasheet)", E1 CSIN (in) "Charge current-sense input. Battery current is sensed across an external sense resistor. A 0.1-uF ceramic capacitor to PGND is required.", E2 CD (in) "Charge disable control pin. CD=0, charge is enabled. CD=1, charge is disabled and VBUS pin is high impedance to GND. In 15min mode, Setting CD=1 resets the 15min timer; while in 32s mode, Setting CD=1 will NOT reset the (See Datasheet)", E3 VREF (out) "Internal bias regulator voltage. Connect a 1 uF ceramic capacitor from this output to PGND. External load on VREF is not recommended", E4 CSOUT (in) "Battery voltage and current sense input. Bypass it with a ceramic capacitor (minimum 0.1 uF) to PGND if there are long inductive leads to battery"

## BQ24153AYFFT
designator U?
Fully Integrated Switch Mode One-Cell Li-Ion Charger with Full USB Compliance, 4 V, -40 to 85 degC, 20-pin DSBGA (YFF), Green (RoHS & no Sb/Br); PartNumber: BQ24153AYFFT; Manufacturer: Texas Instruments; Lead Acid: N; SubFamily: Battery Charge Management; Vin(Min)(V): 4; DatasheetVersion: SLUSAB0A; PackageVersion: revAF, Mar-2012; PackageReference: YFF20-2140X2000DE; PackageDescription: 20-Ball Die-Size Ball Grid Array, 2.14 x 2 mm Body, 0.4 mm Pitch, Pb-Free; Supplier 1: Digi-Key; Supplier Part Number 1: BQ24153AYFFT-ND; Supplier 2: Newark; Supplier Part Number 2: 57T9696; Supplier 3: Mouser; Supplier Part Number 3: 595-BQ24153AYFFT; Eco-Plan: Green (RoHS & no Sb/Br); Li-Ion: N; Li-Polymer: N; NiCd: N; NiMH: N; Over Voltage Protection: N; Mounting Technology: Surface Mount; ComponentLink1Description: Datasheet; ComponentLink1URL: http://www.ti.com/general/docs/lit/getliterature.tsp?genericPartNumber=BQ24153A&fileType=pdf
footprint YFF20-2140X2000DE (BGA, 20-Leads, Body 2.14x2mm, Pitch 0.4mm, Solder Mask Defined Pads)
pins: A1 VBUS (power) "Charger input voltage. Bypass it with a 1-uF ceramic capacitor from VBUS to PGND. It also provides power to the load during boost mode 1", A2 VBUS (power) "Charger input voltage. Bypass it with a 1-uF ceramic capacitor from VBUS to PGND. It also provides power to the load during boost mode 1", A3 BOOT (power) "Bootstrap capacitor connection for the high-side FET gate driver. Connect a 10-nF ceramic capacitor (voltage rating >= 10 V) from BOOT pin to SW pin", A4 SCL (in) "I2C interface clock. Connect a 10-k ohm pullup resistor to 1.8V rail (VAUX= VCC_HOST)", B1 PMID (out) "Connection point between reverse blocking FET and high-side switching FET. Bypass it with a minimum of 3.3 uF capacitor from PMID to PGND", B2 PMID (out) "Connection point between reverse blocking FET and high-side switching FET. Bypass it with a minimum of 3.3 uF capacitor from PMID to PGND", B3 PMID (out) "Connection point between reverse blocking FET and high-side switching FET. Bypass it with a minimum of 3.3 uF capacitor from PMID to PGND", B4 SDA (io) "I2C interface data. Connect a 10-k ohm  pullup resistor to 1.8V rail (VAUX= VCC_HOST)", C1 SW (power) "Internal switch to output inductor connection.", C2 SW (power) "Internal switch to output inductor connection.", C3 SW (power) "Internal switch to output inductor connection.", C4 STAT (hiz) "Charge status pin. Pull low when charge in progress. Open drain for other conditions. During faults, a 128-us pulse is sent out. STAT pin can be disabled by the EN_STAT bit in control register. STAT can be used to drive a (See Datasheet)", D1 PGND (power) "Power ground", D2 PGND (power) "Power ground", D3 PGND (power) "Power ground", D4 OTG (in) "Boost mode enable control or input current limiting selection pin. When OTG is in active status, bq24153A/8 is forced to operate in boost mode. It has higher priority over I2C control and can be disabled using the control (See Datasheet)", E1 CSIN (in) "Charge current-sense input. Battery current is sensed across an external sense resistor. A 0.1-uF ceramic capacitor to PGND is required.", E2 CD (in) "Charge disable control pin. CD=0, charge is enabled. CD=1, charge is disabled and VBUS pin is high impedance to GND. In 15min mode, Setting CD=1 resets the 15min timer; while in 32s mode, Setting CD=1 will NOT reset the (See Datasheet)", E3 VREF (out) "Internal bias regulator voltage. Connect a 1 uF ceramic capacitor from this output to PGND. External load on VREF is not recommended", E4 CSOUT (in) "Battery voltage and current sense input. Bypass it with a ceramic capacitor (minimum 0.1 uF) to PGND if there are long inductive leads to battery"

## BQ24155RGYR
designator U?
Fully Integrated Switch-Mode One-Cell Li-Ion Charger with Full USB Compliance, 4 V, -40 to 85 degC, 14-pin VQFN (RGY), Green (RoHS & no Sb/Br); PartNumber: BQ24155RGYR; Manufacturer: Texas Instruments; Lead Acid: N; SubFamily: Battery Charge Management; Vin(Min)(V): 4; DatasheetVersion: SLUS942; PackageVersion: revI, Jun-2011; PackageReference: RGY14-2050X2050TP; PackageDescription: 14-Leads Plastic Quad Flatpack No-Lead, 3.5 x 3.5 x 0.9 mm Body, 0.5 mm Pitch; Supplier 1: Digi-Key; Supplier Part Number 1: 296-27187-2-ND; Supplier 2: Digi-Key; Supplier Part Number 2: 296-27187-1-ND; Supplier 3: Digi-Key; Supplier Part Number 3: 296-27187-6-ND; Supplier 4: Newark; Supplier Part Number 4: 72R5024; Supplier 5: Mouser; Supplier Part Number 5: 595-BQ24155RGYR; Eco-Plan: Green (RoHS & no Sb/Br); Li-Ion: N; Li-Polymer: N; NiCd: N; NiMH: N; Over Voltage Protection: N; Mounting Technology: Surface Mount; Code_JEDEC: MO-241-BA; ComponentLink1Description: Datasheet; ComponentLink1URL: http://www.ti.com/general/docs/lit/getliterature.tsp?genericPartNumber=BQ24155&fileType=pdf
footprint RGY14-2050X2050TP (QFN, 14-Leads, Body 3.5x3.5mm, Pitch 0.5mm, Thermal Pad 2.05x2.05mm, TI Recommended)
pins: 1 BOOT (power) "Bootstrap capacitor connection for the high-side FET gate driver. Connect a 10-nF ceramic capacitor (voltage rating above 10 V) from BOOT pin to SW pin.", 2 SCL (io) "I2C interface clock. Open drain output, connect a 10-kohm pullup resistor to 1.8V rail", 3 SDA (io) "I2C interface data. Open drain output, connect a 10-kohm pullup resistor to 1.8V rail", 4 STAT (hiz) "Charge status pin. Pull low when charge in progress. Open drain for other conditions. During faults, a 128u S pulse is sent out. STAT pin can be disabled by the EN_STAT bit in control register. STAT can be used to drive a (See Datasheet)", 5 ISEL (in) "Input current limiting selection pin. In 32 minutes mode, the ISEL pin is default to be used as the input current limiting selection pin. When ISEL = High, Iin - limit = 500 mA and when ISEL = Low, Iin - limit = 100 mA, see (See Datasheet)", 6 CSOUT (in) "Battery voltage and current sense input. Bypass it with a ceramic capacitor (minimum 0.1 uF) to PGND if there are long inductive leads to battery.", 7 AUXPWR (power) "Auxiliary power supply, connected to the battery pack to provide power in high-impedance mode. Bypass it with a 1-uF ceramic capacitor from this pin to PGND.", 8 VREF (out) "Internal bias regulator voltage. Connect a 1-uF ceramic capacitor from this output to PGND. External load on VREF is not allowed.", 9 CSIN (in) "Charge current-sense input. Battery current is sensed across an external sense resistor. A 0.1-uF ceramic capacitor to PGND is required", 10 SGND (power) "Signal ground", 11 PGND (power) "Power ground", 12 SW (power) "Internal switch to output inductor connection", 13 PMID (out) "Connection point between reverse blocking FET and high-side switching FET. Bypass it with a minimum of 3.3-uF capacitor from PMID to PGND.", 14 VBUS (power) "Charger input voltage. Bypass it with a 1-uF ceramic capacitor from VBUS to PGND", 15 EP (power) "There is an internal electrical connection between the exposed thermal pad and the PGND pin of the device. The thermal pad must be connected to the same potential as the PGND pin on the printed Thermal pad pad - circuit (See Datasheet)"